# Altium footprint library 452006250-3#NIBP涡轮驱动板V2.001.PcbLib: 80 footprints (part 3 of 5)
Each footprint in its own frame and in the unit in brackets; x right, y up, seen from the top. Pads: shape width x height; smd on the part's side, far side on the other; paste and mask are expansions set on the pad; w line width, h text height; cw(c..) or ccw(c..) is an arc to the next point about the centre after c.
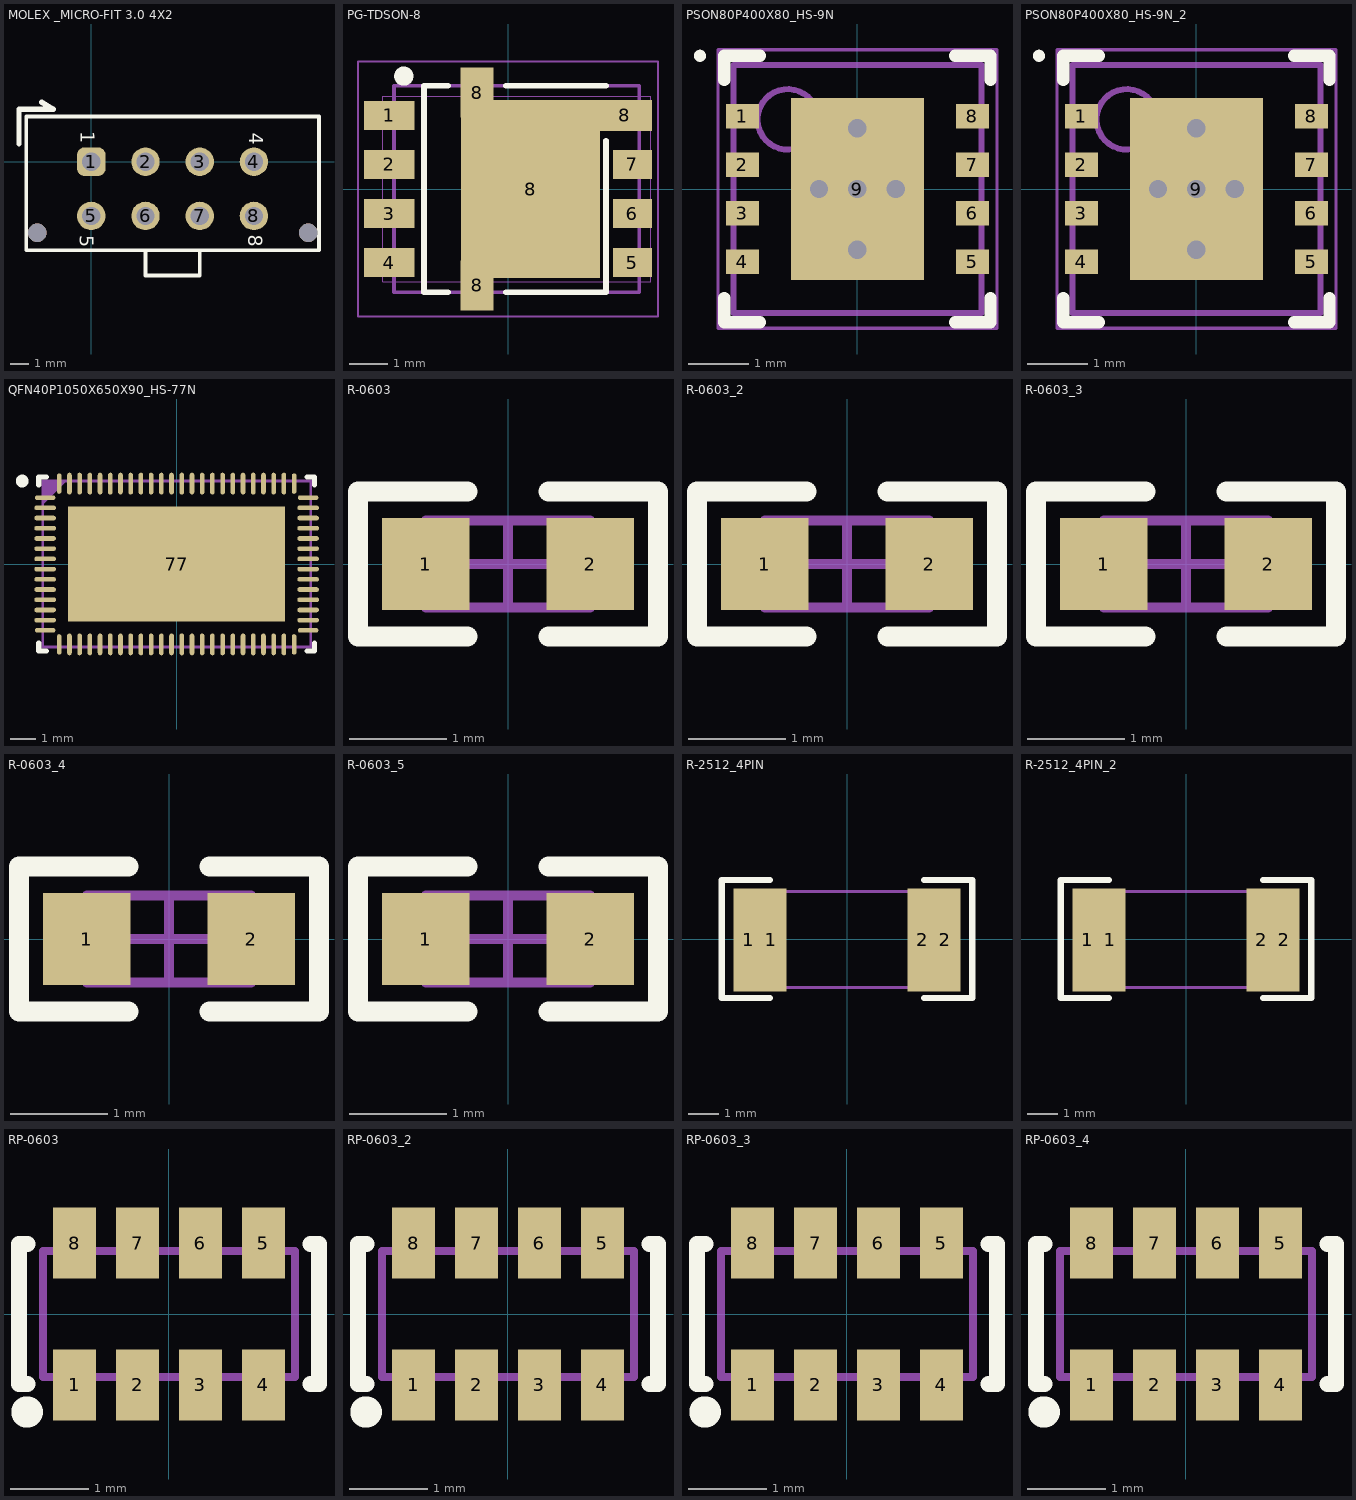
[diagram p2: the footprints below, top view; thin cyan lines are the x and y axes]

## MOLEX _MICRO-FIT 3.0 4X2 [mil]
height 393.7
pads (8):
  rrect50% 62x62 hole 40: 1(0,0)
  round 62 hole 40: 2(118.11,0) 3(236.22,0) 4(354.33,0) 5(0,-118.11) 6(118.11,-118.11) 7(236.22,-118.11) 8(354.33,-118.11)
via -118.11,-155.12 diameter 40.16 hole 40.16
via 472.44,-155.12 diameter 40.16 hole 40.16
Top Overlay:
  lines w8: 118.11,-192.91 118.11,-248.03 236.22,-248.03 236.22,-192.91 ; -141.73,-192.91 -141.73,98.43 496.06,98.43 496.06,-192.91 -141.73,-192.91
  lines w11.81: -157.48,39.17 -157.48,114.17 -82.48,114.17 -107.48,129.17
  text "4" at 344.49,62.99 h30
  text "5" at -24.61,-160.43 h30
  text "8" at 341.54,-159.45 h30
  text "1" at -22.64,65.94 h30
3D body "430450827.stp": height 391.93, standoff -123.43, extent -140.75,-249.21 495.08,96.06

## PG-TDSON-8 [mm]
pads (11):
  rect 1.3x0.75 smd: 1(-3.075,1.905) 2(-3.075,0.635) 3(-3.075,-0.635) 4(-3.075,-1.905)
  rect 1x0.75 smd: 5(3.225,-1.905) 6(3.225,-0.635) 7(3.225,0.635)
  rect 0.85x1.3 smd: 8(-0.8,-2.5) 8(-0.8,2.5)
  rect 3.6x4.6 smd: 8(0.585,0)
  rect 1.4x0.8 smd: 8(3.025,1.905)
Top Overlay:
  circle w0.25: c-2.7,2.925 r0.125
  lines w0.15: -2.173,-2.675 -2.173,2.675 ; -2.159,-2.675 -1.553,-2.675 ; -2.159,2.675 -1.553,2.675 ; -0.053,-2.675 2.54,-2.675 2.54,1.25 ; -0.053,2.675 2.54,2.675
Mechanical 13:
  lines w0.1: -2.95,-2.675 -2.95,2.675 3.4,2.675 3.4,-2.675 -2.95,-2.675
Mechanical 15:
  lines w0.001: -3.25,-2.4 -3.25,2.4 3.7,2.4 3.7,-2.4 -3.25,-2.4
  lines w0.05: -0.5,0 0.5,0 ; 0,-0.5 0,0.5 ; -3.886,-3.302 -3.886,3.302 3.886,3.302 3.886,-3.302 -3.886,-3.302
Mechanical 16:
  circle w0.05: c0.225,0 r0.35
3D body: height 1, standoff 0.09, extent -2.95,-2.675 3.4,2.675

## PSON80P400X80_HS-9N [mm] "PSON, 8-Leads, Body 4.00x4.00mm, Pitch 0.80mm, Thermal Pad 3.00x2.60mm, IPC Medium Density"
height 0.8
pads (9):
  rect 0.55x0.4 smd: 1(-1.9,1.2) 2(-1.9,0.4) 3(-1.9,-0.4) 4(-1.9,-1.2) 5(1.9,-1.2) 6(1.9,-0.4) 7(1.9,0.4) 8(1.9,1.2)
  rect 2.2x3 smd: 9(0,0)
via 0,-1 diameter 0.6 hole 0.305
via 0.635,0 diameter 0.6 hole 0.305
via 0,0 diameter 0.6 hole 0.305
via -0.635,0 diameter 0.6 hole 0.305
via 0,1 diameter 0.6 hole 0.305
Top Overlay:
  circle w0.1: c-2.6,2.2 r0.05
  lines w0.2: -2.2,-1.8 -2.2,-2.2 -1.61,-2.2 ; -2.2,1.8 -2.2,2.2 -1.61,2.2 ; 1.61,-2.2 2.2,-2.2 2.2,-1.8 ; 1.61,2.2 2.2,2.2 2.2,1.8
Top Paste:
  rectangle: 0.1,-1.4 1.016,-0.1
  rectangle: 0.1,0.1 1.016,1.4
  rectangle: -1.016,-1.4 -0.1,-0.1
  rectangle: -1.016,0.1 -0.1,1.4
Mechanical 13:
  circle w0.1: c-1.15,1.15 r0.5
  lines w0.1: -2.05,-2.05 2.05,-2.05 2.05,2.05 -2.05,2.05 -2.05,-2.05
Mechanical 15:
  lines w0.05: -2.305,-2.3 2.305,-2.3 2.305,2.3 -2.305,2.3 -2.305,-2.3
  lines w0.1: -0.5,0 0.5,0 ; 0,-0.5 0,0.5
3D body "PSON80P400X80_HS-9N.step": height 0.8, standoff 0, extent -2.051,-2.05 2.051,2.05

## PSON80P400X80_HS-9N_2 [mm]
pads (9):
  rect 0.55x0.4 smd: 1(-1.9,1.2) 2(-1.9,0.4) 3(-1.9,-0.4) 4(-1.9,-1.2) 5(1.9,-1.2) 6(1.9,-0.4) 7(1.9,0.4) 8(1.9,1.2)
  rect 2.2x3 smd: 9(0,0)
via 0,1 diameter 0.6 hole 0.305
via -0.635,0 diameter 0.6 hole 0.305
via 0,0 diameter 0.6 hole 0.305
via 0.635,0 diameter 0.6 hole 0.305
via 0,-1 diameter 0.6 hole 0.305
Top Overlay:
  circle w0.1: c-2.6,2.2 r0.05
  lines w0.2: -2.2,-1.8 -2.2,-2.2 -1.61,-2.2 ; -2.2,1.8 -2.2,2.2 -1.61,2.2 ; 1.61,-2.2 2.2,-2.2 2.2,-1.8 ; 1.61,2.2 2.2,2.2 2.2,1.8
Top Paste:
  rectangle: -1.016,0.1 -0.1,1.4
  rectangle: -1.016,-1.4 -0.1,-0.1
  rectangle: 0.1,0.1 1.016,1.4
  rectangle: 0.1,-1.4 1.016,-0.1
Mechanical 13:
  circle w0.1: c-1.15,1.15 r0.5
  lines w0.1: -2.05,-2.05 -2.05,2.05 2.05,2.05 2.05,-2.05 -2.05,-2.05
Mechanical 15:
  lines w0.05: -2.305,-2.3 -2.305,2.3 2.305,2.3 2.305,-2.3 -2.305,-2.3
  lines w0.1: -0.5,0 0.5,0 ; 0,-0.5 0,0.5
3D body "PSON80P400X80_HS-9N.step": height 0.8, standoff 0, extent -2.051,-2.05 2.051,2.05

## QFN40P1050X650X90_HS-77N [mm]
pads (77):
  oval 0.8x0.182 smd mask+0.051: 1(-5.15,2.6) 14(-5.15,-2.6) 39(5.15,-2.6) 52(5.15,2.6)
  oval 0.85x0.182 smd mask+0.051: 2(-5.15,2.2) 3(-5.15,1.8) 4(-5.15,1.4) 5(-5.15,1) 6(-5.15,0.6) 7(-5.15,0.2) 8(-5.15,-0.2) 9(-5.15,-0.6) 10(-5.15,-1) 11(-5.15,-1.4) 12(-5.15,-1.8) 13(-5.15,-2.2) 40(5.15,-2.2) 41(5.15,-1.8) 42(5.15,-1.4) 43(5.15,-1) 44(5.15,-0.6) 45(5.15,-0.2) 46(5.15,0.2) 47(5.15,0.6) 48(5.15,1) 49(5.15,1.4) 50(5.15,1.8) 51(5.15,2.2)
  oval 0.182x0.8 smd mask+0.051: 15(-4.6,-3.15) 38(4.6,-3.15) 53(4.6,3.15) 76(-4.6,3.15)
  oval 0.182x0.85 smd mask+0.051: 16(-4.2,-3.15) 17(-3.8,-3.15) 18(-3.4,-3.15) 19(-3,-3.15) 20(-2.6,-3.15) 21(-2.2,-3.15) 22(-1.8,-3.15) 23(-1.4,-3.15) 24(-1,-3.15) 25(-0.6,-3.15) 26(-0.2,-3.15) 27(0.2,-3.15) 28(0.6,-3.15) 29(1,-3.15) 30(1.4,-3.15) 31(1.8,-3.15) 32(2.2,-3.15) 33(2.6,-3.15) 34(3,-3.15) 35(3.4,-3.15) 36(3.8,-3.15) 37(4.2,-3.15) 54(4.2,3.15) 55(3.8,3.15) 56(3.4,3.15) 57(3,3.15) 58(2.6,3.15) 59(2.2,3.15) 60(1.8,3.15) 61(1.4,3.15) 62(1,3.15) 63(0.6,3.15) 64(0.2,3.15) 65(-0.2,3.15) 66(-0.6,3.15) 67(-1,3.15) 68(-1.4,3.15) 69(-1.8,3.15) 70(-2.2,3.15) 71(-2.6,3.15) 72(-3,3.15) 73(-3.4,3.15) 74(-3.8,3.15) 75(-4.2,3.15)
  rect 8.5x4.5 smd: 77(0,0)
Top Overlay:
  circle w0.25: c-6.05,3.25 r0.125
  lines w0.2: -5.4,-3.1 -5.4,-3.4 -5.1,-3.4 ; -5.4,3.1 -5.4,3.4 -5.1,3.4 ; 5.1,-3.4 5.4,-3.4 5.4,-3.1 ; 5.1,3.4 5.4,3.4 5.4,3.1
Mechanical 16:
  region: -5.25,3.25 -5.25,2.318 -4.318,3.25
  lines w0.1: -5.25,-3.25 -5.25,3.25 5.25,3.25 5.25,-3.25 -5.25,-3.25
3D body "QFN40P1050X650X90_HS-77N.step": height 0.9, standoff 0, extent -5.251,-3.251 5.251,3.251

## R-0603 [mm] "Chip Resistor, 2-Leads, Body 1.60x0.80mm, IPC Medium Density"
height 0.45
pads (2):
  rect 0.9x0.95 smd: 1(-0.85,0) 2(0.85,0)
Top Overlay:
  lines w0.203: -0.418,-0.75 -1.55,-0.75 -1.55,0.75 -0.418,0.75 ; 0.418,-0.75 1.55,-0.75 1.55,0.75 0.418,0.75
Mechanical 13:
  lines w0.1: -0.85,-0.45 0.85,-0.45 0.85,0.45 -0.85,0.45 -0.85,-0.45
Mechanical 15:
  lines w0.1: -0.45,0 0.45,0 ; 0,-0.45 0,0.45
3D body: height 0.45, standoff 0, extent 0.6,-0.45 0.85,0.45
3D body: height 0.45, standoff 0, extent -0.85,-0.45 -0.6,0.45
3D body: height 0.45, standoff 0, extent -0.6,-0.45 0.6,0.45

## R-0603_2 [mm]
pads (2):
  rect 0.9x0.95 smd: 1(-0.85,0) 2(0.85,0)
Top Overlay:
  lines w0.203: -0.418,-0.75 -1.55,-0.75 -1.55,0.75 -0.418,0.75 ; 0.418,-0.75 1.55,-0.75 1.55,0.75 0.418,0.75
Mechanical 13:
  lines w0.1: -0.85,-0.45 0.85,-0.45 0.85,0.45 -0.85,0.45 -0.85,-0.45
Mechanical 15:
  lines w0.1: -0.45,0 0.45,0 ; 0,-0.45 0,0.45
3D body: height 0.45, standoff 0, extent 0.6,-0.45 0.85,0.45
3D body: height 0.45, standoff 0, extent -0.85,-0.45 -0.6,0.45
3D body: height 0.45, standoff 0, extent -0.6,-0.45 0.6,0.45

## R-0603_3 [mm]
pads (2):
  rect 0.9x0.95 smd: 1(-0.85,0) 2(0.85,0)
Top Overlay:
  lines w0.203: -0.418,-0.75 -1.55,-0.75 -1.55,0.75 -0.418,0.75 ; 0.418,-0.75 1.55,-0.75 1.55,0.75 0.418,0.75
Mechanical 13:
  lines w0.1: -0.85,-0.45 0.85,-0.45 0.85,0.45 -0.85,0.45 -0.85,-0.45
Mechanical 15:
  lines w0.1: -0.45,0 0.45,0 ; 0,-0.45 0,0.45
3D body: height 0.45, standoff 0, extent 0.6,-0.45 0.85,0.45
3D body: height 0.45, standoff 0, extent -0.85,-0.45 -0.6,0.45
3D body: height 0.45, standoff 0, extent -0.6,-0.45 0.6,0.45

## R-0603_4 [mm]
pads (2):
  rect 0.9x0.95 smd: 1(-0.85,0) 2(0.85,0)
Top Overlay:
  lines w0.203: -0.418,-0.75 -1.55,-0.75 -1.55,0.75 -0.418,0.75 ; 0.418,-0.75 1.55,-0.75 1.55,0.75 0.418,0.75
Mechanical 13:
  lines w0.1: -0.85,-0.45 0.85,-0.45 0.85,0.45 -0.85,0.45 -0.85,-0.45
Mechanical 15:
  lines w0.1: -0.45,0 0.45,0 ; 0,-0.45 0,0.45
3D body: height 0.45, standoff 0, extent 0.6,-0.45 0.85,0.45
3D body: height 0.45, standoff 0, extent -0.85,-0.45 -0.6,0.45
3D body: height 0.45, standoff 0, extent -0.6,-0.45 0.6,0.45

## R-0603_5 [mm]
pads (2):
  rect 0.9x0.95 smd: 1(-0.85,0) 2(0.85,0)
Top Overlay:
  lines w0.203: -0.418,-0.75 -1.55,-0.75 -1.55,0.75 -0.418,0.75 ; 0.418,-0.75 1.55,-0.75 1.55,0.75 0.418,0.75
Mechanical 13:
  lines w0.1: -0.85,-0.45 0.85,-0.45 0.85,0.45 -0.85,0.45 -0.85,-0.45
Mechanical 15:
  lines w0.1: -0.45,0 0.45,0 ; 0,-0.45 0,0.45
3D body: height 0.45, standoff 0, extent 0.6,-0.45 0.85,0.45
3D body: height 0.45, standoff 0, extent -0.85,-0.45 -0.6,0.45
3D body: height 0.45, standoff 0, extent -0.6,-0.45 0.6,0.45

## R-2512_4PIN [mm]
pads (4):
  rect 1x3.4 smd: 1(-3.25,-0.025) 1(-2.5,-0.025) 2(2.5,-0.025) 2(3.25,-0.025)
Top Overlay:
  lines w0.203: -2.54,-1.95 -4.135,-1.95 -4.135,1.95 -2.54,1.95 ; 2.54,-1.95 4.135,-1.95 4.135,1.95 2.54,1.95
Mechanical 13:
  lines w0.1: -3.2,-1.6 -3.2,1.575 3.2,1.575 3.2,-1.6 -3.2,-1.6
Mechanical 15:
  lines w0.1: -3.2,-1.6 3.2,-1.6 3.2,1.575 -3.2,1.575 -3.2,-1.6
3D body: height 0.45, standoff 0, extent -2.5,-1.6 2.5,1.575
3D body: height 0.45, standoff 0, extent -3.2,-1.6 -2.5,1.575
3D body: height 0.45, standoff 0, extent 2.5,-1.6 3.2,1.575

## R-2512_4PIN_2 [mm]
pads (4):
  rect 1x3.4 smd: 1(-3.25,-0.025) 1(-2.5,-0.025) 2(2.5,-0.025) 2(3.25,-0.025)
Top Overlay:
  lines w0.203: -2.54,-1.95 -4.135,-1.95 -4.135,1.95 -2.54,1.95 ; 2.54,-1.95 4.135,-1.95 4.135,1.95 2.54,1.95
Mechanical 13:
  lines w0.1: -3.2,-1.6 -3.2,1.575 3.2,1.575 3.2,-1.6 -3.2,-1.6
Mechanical 15:
  lines w0.1: -3.2,-1.6 3.2,-1.6 3.2,1.575 -3.2,1.575 -3.2,-1.6
3D body: height 0.45, standoff 0, extent -2.5,-1.6 2.5,1.575
3D body: height 0.45, standoff 0, extent -3.2,-1.6 -2.5,1.575
3D body: height 0.45, standoff 0, extent 2.5,-1.6 3.2,1.575

## RP-0603 [mm]
pads (8):
  rect 0.55x0.9 smd: 1(-1.2,-0.9) 2(-0.4,-0.9) 3(0.4,-0.9) 4(1.2,-0.9) 5(1.2,0.9) 6(0.4,0.9) 7(-0.4,0.9) 8(-1.2,0.9)
Top Overlay:
  circle w0.2: c-1.802,-1.245 r0.1
  lines w0.203: -1.8,-0.889 -1.905,-0.889 -1.905,0.889 -1.8,0.889 ; 1.8,-0.889 1.905,-0.889 1.905,0.889 1.8,0.889
Mechanical 13:
  lines w0.1: -1.6,-0.8 -1.6,0.8 1.6,0.8 1.6,-0.8 -1.6,-0.8
3D body: height 0.45, standoff 0, extent 0.975,-1 1.425,-0.8
3D body: height 0.45, standoff 0, extent 0.175,-1 0.625,-0.8
3D body: height 0.45, standoff 0, extent -0.625,-1 -0.175,-0.8
3D body: height 0.45, standoff 0, extent -1.425,-1 -0.975,-0.8
3D body: height 0.45, standoff 0, extent 0.975,0.8 1.425,1
3D body: height 0.45, standoff 0, extent 0.175,0.8 0.625,1
3D body: height 0.45, standoff 0, extent -0.625,0.8 -0.175,1
3D body: height 0.45, standoff 0, extent -1.425,0.8 -0.975,1
3D body: height 0.45, standoff 0, extent -1.6,-0.8 1.6,0.8

## RP-0603_2 [mm]
pads (8):
  rect 0.55x0.9 smd: 1(-1.2,-0.9) 2(-0.4,-0.9) 3(0.4,-0.9) 4(1.2,-0.9) 5(1.2,0.9) 6(0.4,0.9) 7(-0.4,0.9) 8(-1.2,0.9)
Top Overlay:
  circle w0.2: c-1.802,-1.245 r0.1
  lines w0.203: -1.8,-0.889 -1.905,-0.889 -1.905,0.889 -1.8,0.889 ; 1.8,-0.889 1.905,-0.889 1.905,0.889 1.8,0.889
Mechanical 13:
  lines w0.1: -1.6,-0.8 -1.6,0.8 1.6,0.8 1.6,-0.8 -1.6,-0.8
3D body: height 0.45, standoff 0, extent 0.975,-1 1.425,-0.8
3D body: height 0.45, standoff 0, extent 0.175,-1 0.625,-0.8
3D body: height 0.45, standoff 0, extent -0.625,-1 -0.175,-0.8
3D body: height 0.45, standoff 0, extent -1.425,-1 -0.975,-0.8
3D body: height 0.45, standoff 0, extent 0.975,0.8 1.425,1
3D body: height 0.45, standoff 0, extent 0.175,0.8 0.625,1
3D body: height 0.45, standoff 0, extent -0.625,0.8 -0.175,1
3D body: height 0.45, standoff 0, extent -1.425,0.8 -0.975,1
3D body: height 0.45, standoff 0, extent -1.6,-0.8 1.6,0.8

## RP-0603_3 [mm]
pads (8):
  rect 0.55x0.9 smd: 1(-1.2,-0.9) 2(-0.4,-0.9) 3(0.4,-0.9) 4(1.2,-0.9) 5(1.2,0.9) 6(0.4,0.9) 7(-0.4,0.9) 8(-1.2,0.9)
Top Overlay:
  circle w0.2: c-1.802,-1.245 r0.1
  lines w0.203: -1.8,-0.889 -1.905,-0.889 -1.905,0.889 -1.8,0.889 ; 1.8,-0.889 1.905,-0.889 1.905,0.889 1.8,0.889
Mechanical 13:
  lines w0.1: -1.6,-0.8 1.6,-0.8 1.6,0.8 -1.6,0.8 -1.6,-0.8
3D body: height 0.45, standoff 0, extent -1.6,-0.8 1.6,0.8
3D body: height 0.45, standoff 0, extent -1.425,0.8 -0.975,1
3D body: height 0.45, standoff 0, extent -0.625,0.8 -0.175,1
3D body: height 0.45, standoff 0, extent 0.175,0.8 0.625,1
3D body: height 0.45, standoff 0, extent 0.975,0.8 1.425,1
3D body: height 0.45, standoff 0, extent -1.425,-1 -0.975,-0.8
3D body: height 0.45, standoff 0, extent -0.625,-1 -0.175,-0.8
3D body: height 0.45, standoff 0, extent 0.175,-1 0.625,-0.8
3D body: height 0.45, standoff 0, extent 0.975,-1 1.425,-0.8

## RP-0603_4 [mm]
pads (8):
  rect 0.55x0.9 smd: 1(-1.2,-0.9) 2(-0.4,-0.9) 3(0.4,-0.9) 4(1.2,-0.9) 5(1.2,0.9) 6(0.4,0.9) 7(-0.4,0.9) 8(-1.2,0.9)
Top Overlay:
  circle w0.2: c-1.802,-1.245 r0.1
  lines w0.203: -1.8,-0.889 -1.905,-0.889 -1.905,0.889 -1.8,0.889 ; 1.8,-0.889 1.905,-0.889 1.905,0.889 1.8,0.889
Mechanical 13:
  lines w0.1: -1.6,-0.8 -1.6,0.8 1.6,0.8 1.6,-0.8 -1.6,-0.8
3D body: height 0.45, standoff 0, extent 0.975,-1 1.425,-0.8
3D body: height 0.45, standoff 0, extent 0.175,-1 0.625,-0.8
3D body: height 0.45, standoff 0, extent -0.625,-1 -0.175,-0.8
3D body: height 0.45, standoff 0, extent -1.425,-1 -0.975,-0.8
3D body: height 0.45, standoff 0, extent 0.975,0.8 1.425,1
3D body: height 0.45, standoff 0, extent 0.175,0.8 0.625,1
3D body: height 0.45, standoff 0, extent -0.625,0.8 -0.175,1
3D body: height 0.45, standoff 0, extent -1.425,0.8 -0.975,1
3D body: height 0.45, standoff 0, extent -1.6,-0.8 1.6,0.8